# EAGLE library part TEXAS_INSTRUMENTS-BUCK_CONVERTER-TPS563249DDCR (library Module_Regulators)
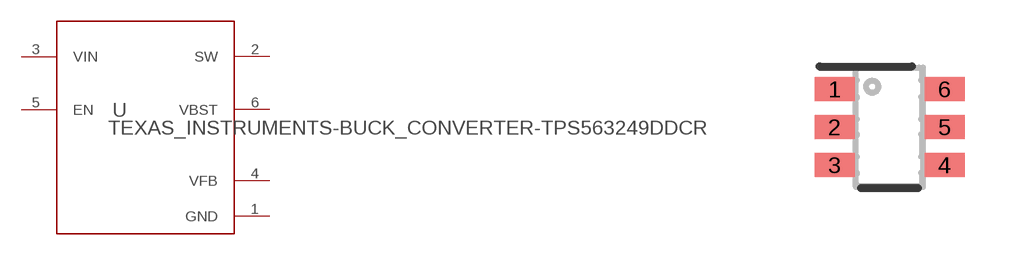
[diagram p26: symbol with the pads of TEXAS_INSTRUMENTS-SUPERVISOR_MONITOR-TPS3711DDCR/BUCK_CONVERTER-TPS563249DDCR/BUCK_CONVERTER-TPS565208DDCR; footprint TEXAS_INSTRUMENTS-SUPERVISOR_MONITOR-TPS3711DDCR/BUCK_CONVERTER-TPS563249DDCR/BUCK_CONVERTER-TPS565208DDCR]

Designator prefix U

## TEXAS_INSTRUMENTS-BUCK_CONVERTER-TPS563249DDCR (MANUFACTURER: Texas Instruments; PARTNUMBER: TPS563249DDCR; REFDES: RefDes; TYPE: TYPE; VALUE: Value)  [TEXAS_INSTRUMENTS-SUPERVISOR_MONITOR-TPS3711DDCR/BUCK_CONVERTER-TPS563249DDCR/BUCK_CONVERTER-TPS565208DDCR]
1  GND  pwr
2  SW  pwr
3  VIN  pwr
4  VFB  in
5  EN  in
6  VBST  pwr

## Footprint TEXAS_INSTRUMENTS-SUPERVISOR_MONITOR-TPS3711DDCR/BUCK_CONVERTER-TPS563249DDCR/BUCK_CONVERTER-TPS565208DDCR (pad centres in mm)
smd 1 x 0.6: 1 -1.375,0.95; 2 -1.375,0; 3 -1.375,-0.95; 4 1.375,-0.95; 5 1.375,0; 6 1.375,0.95